# Altium footprint library MT3608_SOT-23-6_Boost_IC.PcbLib: 1 footprints
Each footprint in its own frame and in the unit in brackets; x right, y up, seen from the top. Pads: shape width x height; smd on the part's side, far side on the other; paste and mask are expansions set on the pad; w line width, h text height; cw(c..) or ccw(c..) is an arc to the next point about the centre after c.
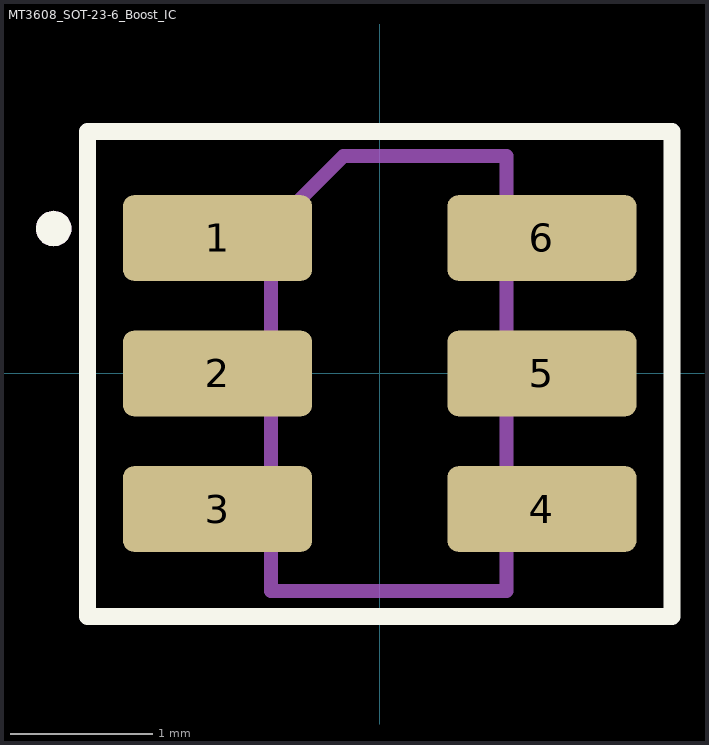
[diagram p0: the footprint, top view; thin cyan lines are the x and y axes]

## MT3608_SOT-23-6_Boost_IC [mm] "MT3608_SOT-23-6_Boost_IC"
pads (8):
  rrect25% 1.325x0.6 smd: 1(-1.137,0.95) 2(-1.137,0) 3(-1.137,-0.95) 4(1.137,-0.95) 5(1.137,0) 6(1.137,0.95)
  round 0.25 on Top Overlay: ""(-2.286,1.016)
  round 0.25 on Mech1: ""(-2.286,1.016)
Top Overlay:
  lines w0.12: -2.05,-1.704 2.05,-1.704 2.05,1.696 -2.05,1.696 -2.05,-1.704
Mechanical 1:
  lines w0.1: -2.05,-1.704 2.05,-1.704 2.05,1.696 -2.05,1.696 -2.05,-1.704 ; -0.762,-1.524 0.889,-1.524 0.889,1.524 -0.254,1.524 -0.762,1.016 -0.762,-1.524
  text ".Designator" at -0.127,0.245 h1.3
Top Courtyard:
  text "+" at -0.333,-0.5 h1
3D body "SOT23-6.STEP": height 1.1, standoff 0, extent -1.392,-1.45 1.392,1.45